# EAGLE library part INTEL_EDISON_PCB (library graftel-internal-ic)
Intel Edison Compute Module. Ideal for creating your own PCB to host an Edison. Created for www.element14.com by Dave of Young Circuit Designs. Note: 70-pin connector on the Edison is a 1.5mm-tall Hirose plug DF40C-70DP-0.4V(51) Mating Hirose receptacle connectors of varying heights include the following Hirose part numbers: 1.5mm-tall: DF40C-70DS-0.4V(51) 2.0mm-tall: DF40C(2.0)-70DS-0.4V(51) 3.0mm-tall: DF40CG(3.0)-70DS-0.4V(51) The host board will sit flush with the Edison's shield if the 1.5mm-tall receptacle is used. More information can be found on the Intel Edison Compute Module Hardware Guide.
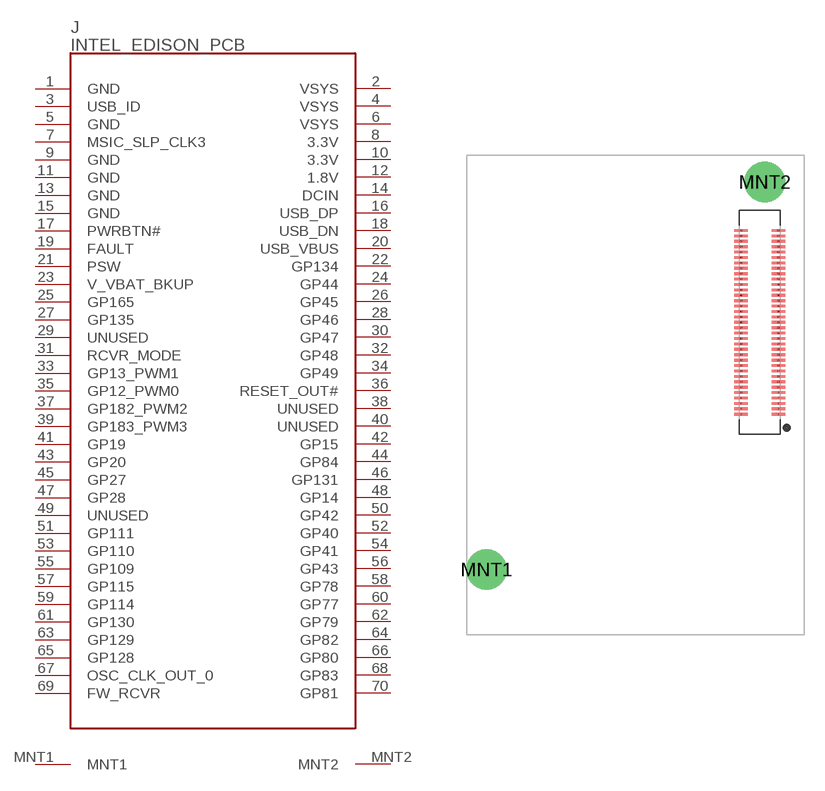
[diagram p12: symbol with the pads of INTEL_EDISON; footprint INTEL_EDISON]

Designator prefix J

## INTEL_EDISON_PCB  [INTEL_EDISON]
1  GND
2  VSYS
3  USB_ID
4  VSYS
5  GND
6  VSYS
7  MSIC_SLP_CLK3
8  3.3V
9  GND
10  3.3V
11  GND
12  1.8V
13  GND
14  DCIN
15  GND
16  USB_DP
17  PWRBTN#
18  USB_DN
19  FAULT
20  USB_VBUS
21  PSW
22  GP134
23  V_VBAT_BKUP
24  GP44
25  GP165
26  GP45
27  GP135
28  GP46
29  UNUSED
30  GP47
31  RCVR_MODE
32  GP48
33  GP13_PWM1
34  GP49
35  GP12_PWM0
36  RESET_OUT#
37  GP182_PWM2
38  UNUSED
39  GP183_PWM3
40  UNUSED
41  GP19
42  GP15
43  GP20
44  GP84
45  GP27
46  GP131
47  GP28
48  GP14
49  UNUSED
50  GP42
51  GP111
52  GP40
53  GP110
54  GP41
55  GP109
56  GP43
57  GP115
58  GP78
59  GP114
60  GP77
61  GP130
62  GP79
63  GP129
64  GP82
65  GP128
66  GP80
67  OSC_CLK_OUT_0
68  GP83
69  FW_RCVR
70  GP81
MNT1  MNT1
MNT2  MNT2

## Footprint INTEL_EDISON (pad centres in mm)
Intel Edison Compute Module. Ideal for creating your own PCB to host an Edison. Created for www.element14.com by Dave of Young Circuit Designs. Note: 70-pin connector on the Edison is a 1.5mm-tall Hirose plug DF40C-70DP-0.4V(51) Mating Hirose receptacle connectors of varying heights include the following Hirose part numbers: 1.5mm-tall: DF40C-70DS-0.4V(51) 2.0mm-tall: DF40C(2.0)-70DS-0.4V(51) 3.0mm-tall: DF40CG(3.0)-70DS-0.4V(51) The host board will sit flush with the Edison's shield if the 1.5mm-tall receptacle is used. More information can be found on the Intel Edison Compute Module Hardware Guide.
smd 1 x 0.2: 1 21.62,11.5; 2 18.84,11.5; 3 21.62,11.9; 4 18.84,11.9; 5 21.62,12.3; 6 18.84,12.3; 7 21.62,12.7; 8 18.84,12.7; 9 21.62,13.1; 10 18.84,13.1; 11 21.62,13.5; 12 18.84,13.5; 13 21.62,13.9; 14 18.84,13.9; 15 21.62,14.3; 16 18.84,14.3; 17 21.62,14.7; 18 18.84,14.7; 19 21.62,15.1; 20 18.84,15.1; 21 21.62,15.5; 22 18.84,15.5; 23 21.62,15.9; 24 18.84,15.9; 25 21.62,16.3; 26 18.84,16.3; 27 21.62,16.7; 28 18.84,16.7; 29 21.62,17.1; 30 18.84,17.1; 31 21.62,17.5; 32 18.84,17.5; 33 21.62,17.9; 34 18.84,17.9; 35 21.62,18.3; 36 18.84,18.3; 37 21.62,18.7; 38 18.84,18.7; 39 21.62,19.1; 40 18.84,19.1; 41 21.62,19.5; 42 18.84,19.5; 43 21.62,19.9; 44 18.84,19.9; 45 21.62,20.3; 46 18.84,20.3; 47 21.62,20.7; 48 18.84,20.7; 49 21.62,21.1; 50 18.84,21.1; 51 21.62,21.5; 52 18.84,21.5; 53 21.62,21.9; 54 18.84,21.9; 55 21.62,22.3; 56 18.84,22.3; 57 21.62,22.7; 58 18.84,22.7; 59 21.62,23.1; 60 18.84,23.1; 61 21.62,23.5; 62 18.84,23.5; 63 21.62,23.9; 64 18.84,23.9; 65 21.62,24.3; 66 18.84,24.3; 67 21.62,24.7; 68 18.84,24.7; 69 21.62,25.1; 70 18.84,25.1
drill 2: MNT1 0,0; MNT2 20.6,28.69